# Altium integrated library TRANS_220_12.IntLib: 1 symbol
Pins are listed as number, name and electrical type; pins without a type are passive.

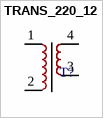
[diagram p0: symbol TRANS_220_12]

## TRANS_220_12
designator T?  (value not drawn)
footprint TRANS_220_12
pins: 1, 2, 3, 4